# Altium footprint library rohm_transistors.PcbLib: 2 footprints
Each footprint in its own frame and in the unit in brackets; x right, y up, seen from the top. Pads: shape width x height; smd on the part's side, far side on the other; paste and mask are expansions set on the pad; w line width, h text height; cw(c..) or ccw(c..) is an arc to the next point about the centre after c.
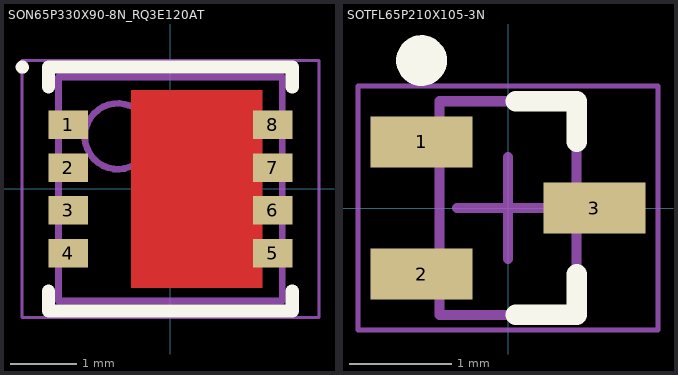
[diagram p0: the footprints below, top view; thin cyan lines are the x and y axes]

## SON65P330X90-8N_RQ3E120AT [mm] "SON, 8-Leads, Body 3.30x3.30mm, Pitch 0.65mm, IPC Medium Density"
height 0.9
pads (8):
  rect 0.6x0.43 smd: 1(-1.55,0.975) 2(-1.55,0.325) 3(-1.55,-0.325) 4(-1.55,-0.975) 5(1.55,-0.975) 6(1.55,-0.325) 7(1.55,0.325) 8(1.55,0.975)
Top Layer:
  rectangle: -0.6,-1.5 1.4,1.5
Top Overlay:
  circle w0.1: c-2.25,1.85 r0.05
  lines w0.2: -1.85,-1.55 -1.85,-1.85 1.85,-1.85 1.85,-1.55 ; -1.85,1.55 -1.85,1.85 1.85,1.85 1.85,1.55
Mechanical 13:
  circle w0.1: c-0.8,0.8 r0.5
  lines w0.1: -1.7,-1.7 1.7,-1.7 1.7,1.7 -1.7,1.7 -1.7,-1.7
Mechanical 15:
  lines w0.05: -2.255,-1.95 2.255,-1.95 2.255,1.95 -2.255,1.95 -2.255,-1.95
  lines w0.1: -0.5,0 0.5,0 ; 0,-0.5 0,0.5
3D body "SON65P330X90-8N_RQ3E120AT.step": height 0.9, standoff 0, extent -1.701,-1.7 1.701,1.7

## SOTFL65P210X105-3N [mm] "SOTFL, 3-Leads, Body 2,00x2,10mm, Pitch 0,65mm, IPC Medium Density"
height 1.05
pads (3):
  rect 1x0.5 smd: 1(-0.85,0.65) 2(-0.85,-0.65) 3(0.85,0)
Top Overlay:
  circle w0.25: c-0.85,1.45 r0.125
  lines w0.2: 0.075,-1.05 0.675,-1.05 0.675,-0.65 ; 0.075,1.05 0.675,1.05 0.675,0.65
Mechanical 13:
  lines w0.1: -0.675,-1.05 -0.675,1.05 0.675,1.05 0.675,-1.05 -0.675,-1.05
Mechanical 15:
  lines w0.05: -1.475,-1.2 -1.475,1.2 1.475,1.2 1.475,-1.2 -1.475,-1.2
  lines w0.1: -0.5,0 0.5,0 ; 0,-0.5 0,0.5
3D body "SOTFL65P210X105-3N.step": height 1.05, standoff 0, extent -1.05,-1.048 1.05,1.048